# Altium footprint library SN2032.PcbLib: 1 footprints
Each footprint in its own frame and in the unit in brackets; x right, y up, seen from the top. Pads: shape width x height; smd on the part's side, far side on the other; paste and mask are expansions set on the pad; w line width, h text height; cw(c..) or ccw(c..) is an arc to the next point about the centre after c.
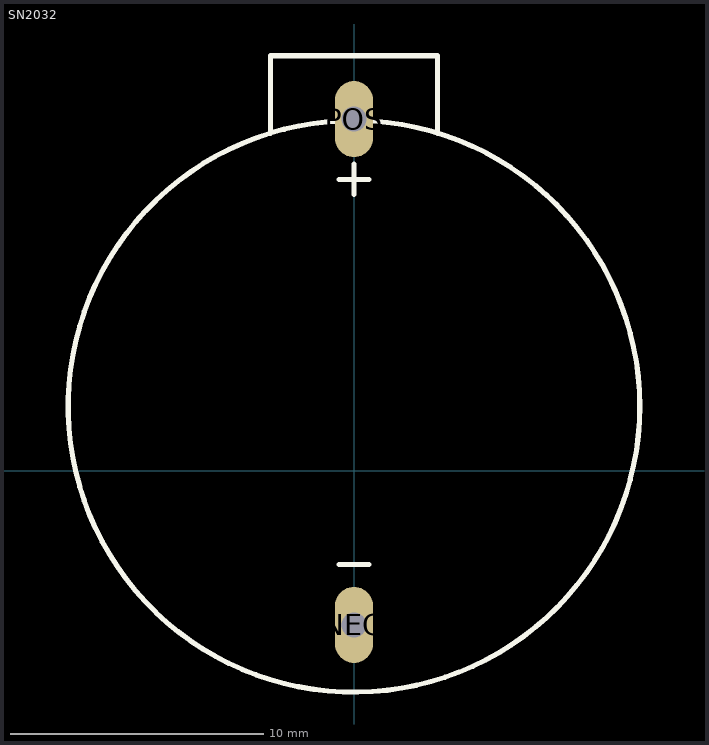
[diagram p0: the footprint, top view; thin cyan lines are the x and y axes]

## SN2032 [mm]
pads (2):
  oval 1.508x3.016 hole 1: NEG(0,-6.1) POS(0,13.9)
Top Overlay:
  circle w0.203: c0,2.54 r11.3
  lines w0.203: -3.3,13.34 -3.3,16.4 3.3,16.4 3.3,13.34 ; -0.6,-3.715 0.6,-3.715 ; -0.6,11.515 0.6,11.515 ; 0,10.915 0,12.115